# Altium integrated library Maxim Power and Battery Management.IntLib: 645 symbols (part 15 of 15)
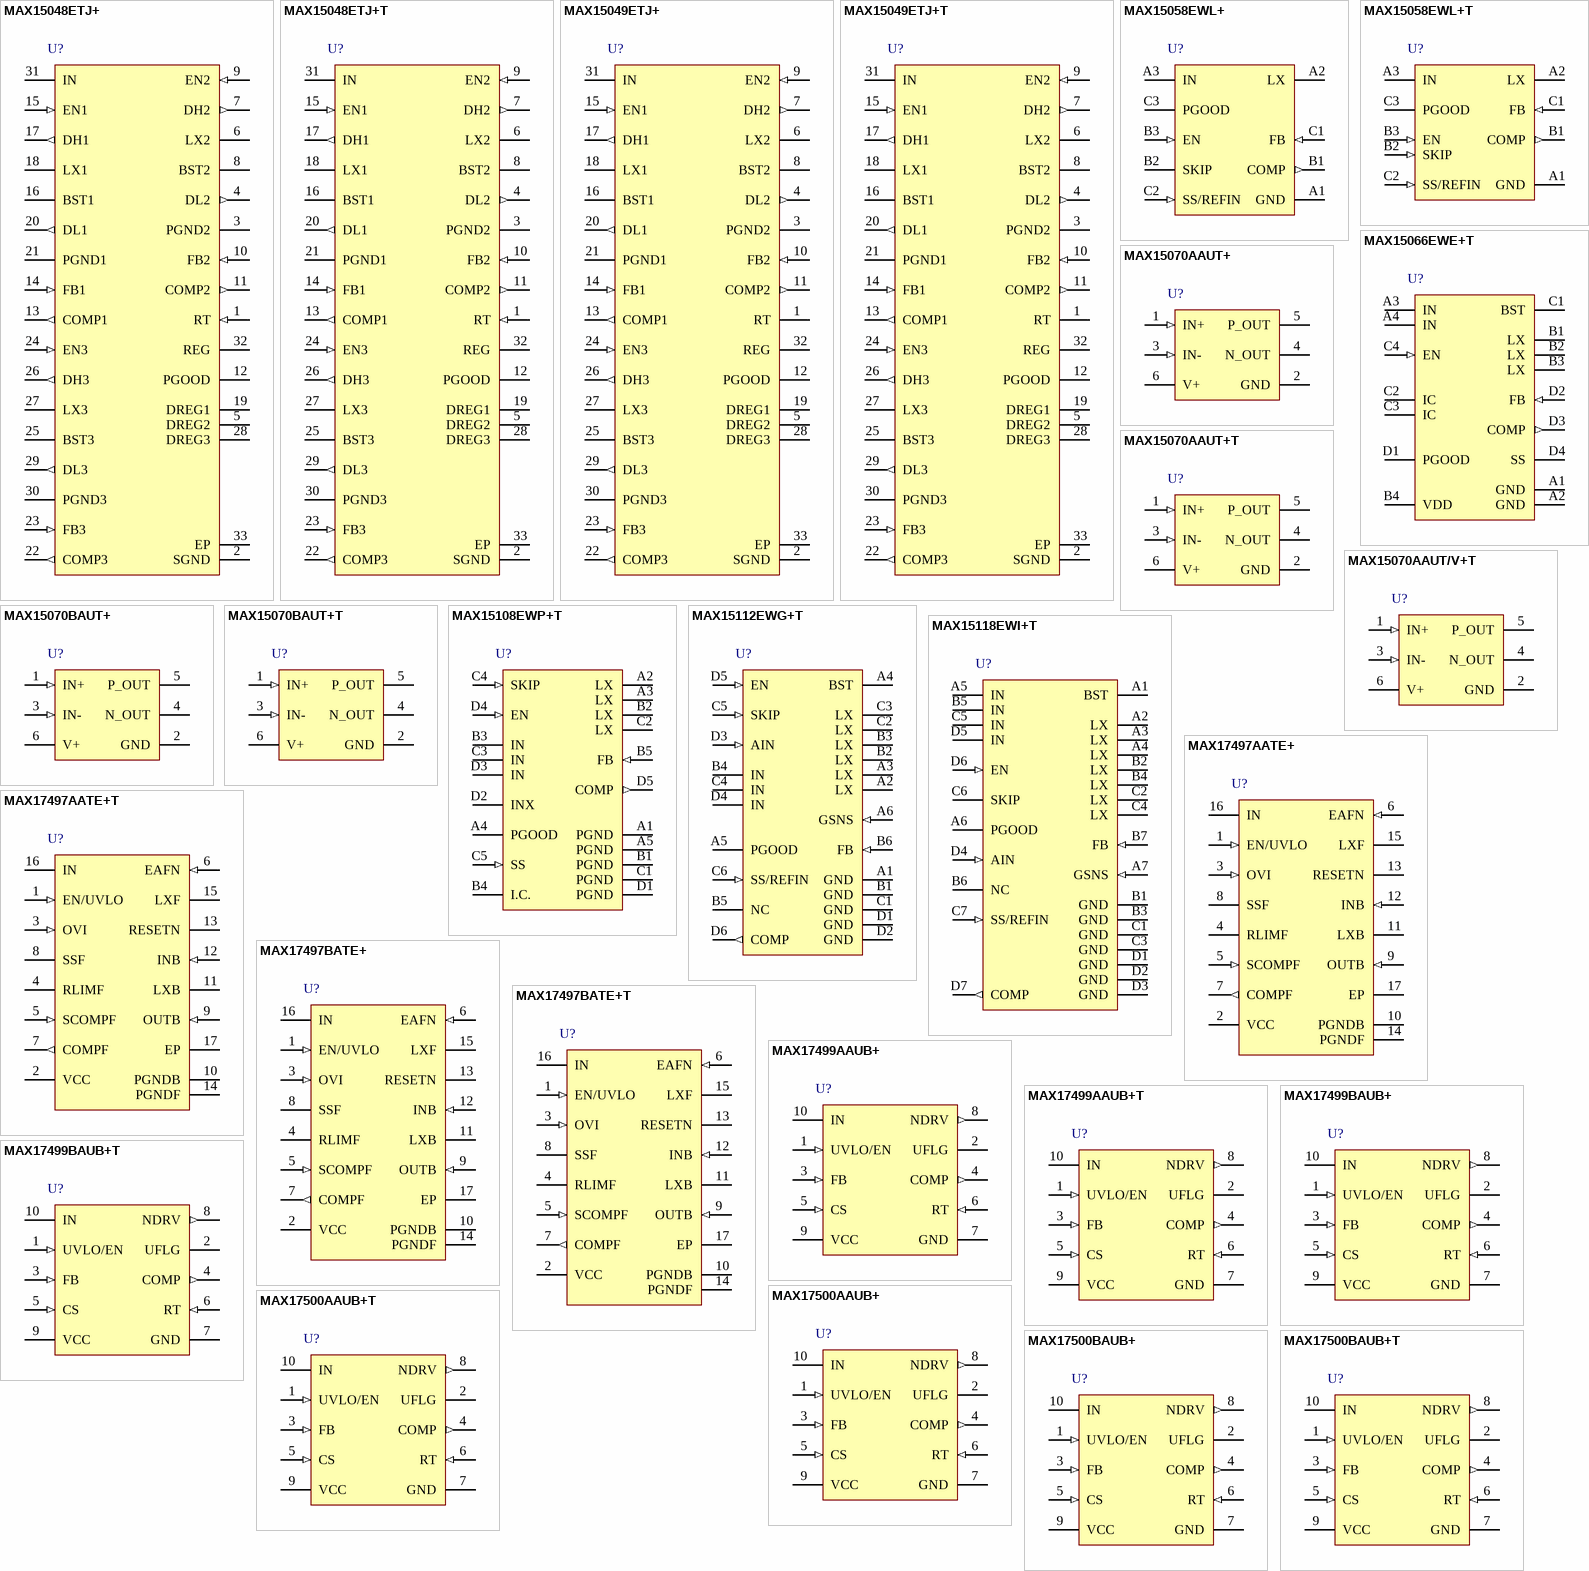
[diagram p33: symbols MAX15048ETJ+ to MAX17500BAUB+T]

## MAX15112EWG+T
designator U?
High-Efficiency, 12A, Current-Mode Synchronous Step-Down Regulator with Integrated Switches, 24-Pin WLP, -40°C to +85°C, Pb-Free, Tape and Reel; DatasheetVersion: Rev 1, Sep-2011; PackageVersion: revB, 2011; PackageReference: W242A3Z+1; PackageDescription: 24-Bump WLP Rectangular, 0.5 mm Pitch, Pb-Free; ComponentLink1Description: Manufacturer URL; ComponentLink1URL: http://www.maxim-ic.com; ComponentLink2Description: Datasheet; ComponentLink2URL: http://datasheets.maxim-ic.com/en/ds/MAX15112.pdf; ComponentLink3Description: Package Specification; ComponentLink3URL: http://pdfserv.maxim-ic.com/package_dwgs/21-0538.PDF
footprint W242A3Z+1 (BGA, 24-Leads, Body 2.1x3.1mm, Pitch 0.5mm)
pins: A1 GND (power) "Ground Connection. GND is the source terminal of the internal low-side switch. Connect all GND bumps to a component-side PCB copper ground plane at a single point near the input bypass capacitor return terminal.", A2 LX "Inductor Connection. Connect LX to the switching side of the inductor. LX is high impedance when the MAX15112 is in shutdown mode.", A3 LX "Inductor Connection. Connect LX to the switching side of the inductor. LX is high impedance when the MAX15112 is in shutdown mode.", A4 BST "Boost Input for the High-Side Switch Driver. Connect a capacitor from BST to LX.", A5 PGOOD (oc) "Power-Good Open-Drain Output. PGOOD asserts high when VFBis above 0.554V (typ) and deasserts when VFBfalls below 0.529V (typ).", A6 GSNS (in) "Remote Ground-Sense Input. Connect GSNS to the ground terminal of the load and to the bottom of the feedback resistors.", B1 GND (power) "Ground Connection. GND is the source terminal of the internal low-side switch. Connect all GND bumps to a component-side PCB copper ground plane at a single point near the input bypass capacitor return terminal.", B2 LX "Inductor Connection. Connect LX to the switching side of the inductor. LX is high impedance when the MAX15112 is in shutdown mode.", B3 LX "Inductor Connection. Connect LX to the switching side of the inductor. LX is high impedance when the MAX15112 is in shutdown mode.", B4 IN (power) "Input Power Supply. Bypass IN to GND with at least two 22uF low-ESR ceramic capacitors with suf-ficient ripple current ratings.", B5 NC "No Connection. Do not connect.", B6 FB (in) "Feedback Input. Connect FB to the center tap of an external resistor divider from the output to the output capacitor return terminal to set the output voltage from 0.6V to 0.94 x VIN.", C1 GND (power) "Ground Connection. GND is the source terminal of the internal low-side switch. Connect all GND bumps to a component-side PCB copper ground plane at a single point near the input bypass capacitor return terminal.", C2 LX "Inductor Connection. Connect LX to the switching side of the inductor. LX is high impedance when the MAX15112 is in shutdown mode.", C3 LX "Inductor Connection. Connect LX to the switching side of the inductor. LX is high impedance when the MAX15112 is in shutdown mode.", C4 IN (power) "Input Power Supply. Bypass IN to GND with at least two 22uF low-ESR ceramic capacitors with suf-ficient ripple current ratings.", C5 SKIP (in) "Skip-Mode Selector Input. Connect SKIP to EN for skip-mode operation. Connect SKIP to GND or leave unconnected for continuous mode operation. Do not change the state of SKIP when EN is high.", C6 SS/REFIN (in) "Soft-Start and External Voltage Reference Input. Connect a capacitor from SS/REFIN to GND to set the soft-start delay. See the Setting the Soft-Start Timesection for more information. To use SS/REFIN as an external voltage reference, apply a voltage ranging from 0V to (VIN- 2.5V) to SS/REFIN to externall", D1 GND (power) "Ground Connection. GND is the source terminal of the internal low-side switch. Connect all GND bumps to a component-side PCB copper ground plane at a single point near the input bypass capacitor return terminal.", D2 GND (power) "Ground Connection. GND is the source terminal of the internal low-side switch. Connect all GND bumps to a component-side PCB copper ground plane at a single point near the input bypass capacitor return terminal.", D3 AIN (in) "Filtered Input Voltage.", D4 IN (power) "Input Power Supply. Bypass IN to GND with at least two 22uF low-ESR ceramic capacitors with suf-ficient ripple current ratings.", D5 EN (in) "Enable Input. Drive EN high to enable the MAX15112. Connect EN to IN for always-on operation.", D6 COMP (out) "Error Amplifier Output. Connect the compensation network from COMP to GND. See the Compensation Design Guidelines section for more information."

## MAX15118EWI+T
designator U?
High-Efficiency, 18A, Current-Mode Synchronous, Step-Down Regulator with Integrated Switches, 28-Pin WLP, -40°C to +85°C, Pb-Free, Tape and Reel; DatasheetVersion: Rev 1, Sep-2011; PackageVersion: revA, 2011; PackageReference: W282B3Z+1; PackageDescription: 28-Ball Wafer-Level Package (WLP) 4x7 Bump, Full Array, 0.5 mm Pitch, Pb-Free; ComponentLink1Description: Manufacturer URL; ComponentLink1URL: http://www.maxim-ic.com; ComponentLink2Description: Datasheet; ComponentLink2URL: http://datasheets.maxim-ic.com/en/ds/MAX15118.pdf; ComponentLink3Description: Package Specification; ComponentLink3URL: http://pdfserv.maxim-ic.com/package_dwgs/21-0577.PDF
footprint W282B3Z+1 (BGA, 28-Leads, Body 2.1x3.6mm, Pitch 0.5mm)
pins: A1 BST, A2 LX, A3 LX, A4 LX, A5 IN (power), A6 PGOOD (oc), A7 GSNS (in), B1 GND (power), B2 LX, B3 GND (power), B4 LX, B5 IN (power), B6 NC, B7 FB (in), C1 GND (power), C2 LX, C3 GND (power), C4 LX, C5 IN (power), C6 SKIP, C7 SS/REFIN (in), D1 GND (power), D2 GND (power), D3 GND (power), D4 AIN (in), D5 IN (power), D6 EN (in), D7 COMP (out)

## MAX17497AATE+
designator U?
AC-DC and DC-DC Peak-Current-Mode Converter with Integrated Step-Down Regulator, 250kHz switching frequency, 16-Pin TQFN, -40°C to +125°C, Pb-Free; DatasheetVersion: Rev 1, Jan-2012; PackageVersion: revJ, 2010; PackageReference: T1633+5; PackageDescription: 16-Pin Thin Quad Flatpack, No Leads, 3 x 3 x 0.75 mm Body, 0.5 mm Pitch, TQFN, Pb-Free; Code_JEDEC: MO-220WEED-2; ComponentLink1Description: Manufacturer URL; ComponentLink1URL: http://www.maxim-ic.com; ComponentLink2Description: Datasheet; ComponentLink2URL: http://datasheets.maxim-ic.com/en/ds/MAX17497A-MAX17497B.pdf; ComponentLink3Description: Package Specification; ComponentLink3URL: http://pdfserv.maxim-ic.com/package_dwgs/21-0136.PDF
footprint T1633+5_N (QFN, 16-Leads, Body 3x3mm, Pitch 0.5mm, Thermal Pad 1.1x1.1mm, IPC Medium Density)
footprint T1633+5_L (QFN, 16-Leads, Body 3x3mm, Pitch 0.5mm, Thermal Pad 1.1x1.1mm, IPC High Density)
footprint T1633+5_M (QFN, 16-Leads, Body 3x3mm, Pitch 0.5mm, Thermal Pad 1.1x1.1mm, IPC Low Density)
pins: 1 EN/UVLO (in), 2 VCC (power), 3 OVI (in), 4 RLIMF, 5 SCOMPF (in), 6 EAFN (in), 7 COMPF (out), 8 SSF, 9 OUTB (in), 10 PGNDB (power), 11 LXB, 12 INB (in), 13 RESETN (oc), 14 PGNDF (power), 15 LXF, 16 IN (power), 17 EP (power)

## MAX17497AATE+T
designator U?
AC-DC and DC-DC Peak-Current-Mode Converter with Integrated Step-Down Regulator, 250kHz switching frequency, 16-Pin TQFN, -40°C to +125°C, Pb-Free, Tape and Reel; DatasheetVersion: Rev 1, Jan-2012; PackageVersion: revJ, 2010; PackageReference: T1633+5; PackageDescription: 16-Pin Thin Quad Flatpack, No Leads, 3 x 3 x 0.75 mm Body, 0.5 mm Pitch, TQFN, Pb-Free; Code_JEDEC: MO-220WEED-2; ComponentLink1Description: Manufacturer URL; ComponentLink1URL: http://www.maxim-ic.com; ComponentLink2Description: Datasheet; ComponentLink2URL: http://datasheets.maxim-ic.com/en/ds/MAX17497A-MAX17497B.pdf; ComponentLink3Description: Package Specification; ComponentLink3URL: http://pdfserv.maxim-ic.com/package_dwgs/21-0136.PDF
footprint T1633+5_N (QFN, 16-Leads, Body 3x3mm, Pitch 0.5mm, Thermal Pad 1.1x1.1mm, IPC Medium Density)
footprint T1633+5_L (QFN, 16-Leads, Body 3x3mm, Pitch 0.5mm, Thermal Pad 1.1x1.1mm, IPC High Density)
footprint T1633+5_M (QFN, 16-Leads, Body 3x3mm, Pitch 0.5mm, Thermal Pad 1.1x1.1mm, IPC Low Density)
pins: 1 EN/UVLO (in), 2 VCC (power), 3 OVI (in), 4 RLIMF, 5 SCOMPF (in), 6 EAFN (in), 7 COMPF (out), 8 SSF, 9 OUTB (in), 10 PGNDB (power), 11 LXB, 12 INB (in), 13 RESETN (oc), 14 PGNDF (power), 15 LXF, 16 IN (power), 17 EP (power)

## MAX17497BATE+
designator U?
AC-DC and DC-DC Peak-Current-Mode Converter with Integrated Step-Down Regulato, 500kHz switching frequencyr, 16-Pin TQFN, -40°C to +125°C, Pb-Free; DatasheetVersion: Rev 1, Jan-2012; PackageVersion: revJ, 2010; PackageReference: T1633+5; PackageDescription: 16-Pin Thin Quad Flatpack, No Leads, 3 x 3 x 0.75 mm Body, 0.5 mm Pitch, TQFN, Pb-Free; Code_JEDEC: MO-220WEED-2; ComponentLink1Description: Manufacturer URL; ComponentLink1URL: http://www.maxim-ic.com; ComponentLink2Description: Datasheet; ComponentLink2URL: http://datasheets.maxim-ic.com/en/ds/MAX17497A-MAX17497B.pdf; ComponentLink3Description: Package Specification; ComponentLink3URL: http://pdfserv.maxim-ic.com/package_dwgs/21-0136.PDF
footprint T1633+5_N (QFN, 16-Leads, Body 3x3mm, Pitch 0.5mm, Thermal Pad 1.1x1.1mm, IPC Medium Density)
footprint T1633+5_L (QFN, 16-Leads, Body 3x3mm, Pitch 0.5mm, Thermal Pad 1.1x1.1mm, IPC High Density)
footprint T1633+5_M (QFN, 16-Leads, Body 3x3mm, Pitch 0.5mm, Thermal Pad 1.1x1.1mm, IPC Low Density)
pins: 1 EN/UVLO (in), 2 VCC (power), 3 OVI (in), 4 RLIMF, 5 SCOMPF (in), 6 EAFN (in), 7 COMPF (out), 8 SSF, 9 OUTB (in), 10 PGNDB (power), 11 LXB, 12 INB (in), 13 RESETN (oc), 14 PGNDF (power), 15 LXF, 16 IN (power), 17 EP (power)

## MAX17497BATE+T
designator U?
AC-DC and DC-DC Peak-Current-Mode Converter with Integrated Step-Down Regulator, 500kHz switching frequencyr, 16-Pin TQFN, -40°C to +125°C, Pb-Free, Tape and Reel; DatasheetVersion: Rev 1, Jan-2012; PackageVersion: revJ, 2010; PackageReference: T1633+5; PackageDescription: 16-Pin Thin Quad Flatpack, No Leads, 3 x 3 x 0.75 mm Body, 0.5 mm Pitch, TQFN, Pb-Free; Code_JEDEC: MO-220WEED-2; ComponentLink1Description: Manufacturer URL; ComponentLink1URL: http://www.maxim-ic.com; ComponentLink2Description: Datasheet; ComponentLink2URL: http://datasheets.maxim-ic.com/en/ds/MAX17497A-MAX17497B.pdf; ComponentLink3Description: Package Specification; ComponentLink3URL: http://pdfserv.maxim-ic.com/package_dwgs/21-0136.PDF
footprint T1633+5_N (QFN, 16-Leads, Body 3x3mm, Pitch 0.5mm, Thermal Pad 1.1x1.1mm, IPC Medium Density)
footprint T1633+5_L (QFN, 16-Leads, Body 3x3mm, Pitch 0.5mm, Thermal Pad 1.1x1.1mm, IPC High Density)
footprint T1633+5_M (QFN, 16-Leads, Body 3x3mm, Pitch 0.5mm, Thermal Pad 1.1x1.1mm, IPC Low Density)
pins: 1 EN/UVLO (in), 2 VCC (power), 3 OVI (in), 4 RLIMF, 5 SCOMPF (in), 6 EAFN (in), 7 COMPF (out), 8 SSF, 9 OUTB (in), 10 PGNDB (power), 11 LXB, 12 INB (in), 13 RESETN (oc), 14 PGNDF (power), 15 LXF, 16 IN (power), 17 EP (power)

## MAX17499AAUB+
designator U?
Current-Mode PWM Controller with Programmable Switching Frequency, 50% DMAX, 9.5V startup, 10-Pin uMAX, -40°C to +125°C, Pb-Free; DatasheetVersion: Rev 1, Jul-2011; PackageVersion: revL, 2008; PackageReference: U10+2; PackageDescription: 10-Pin Micro-MAX Thin Shrink Small Outline (uSOP), 3 x 3 x 0.85 mm Body, 0.5 mm Pitch, Pb-Free; Code_JEDEC: MO-187-BA; ComponentLink1Description: Manufacturer URL; ComponentLink1URL: http://www.maxim-ic.com; ComponentLink2Description: Datasheet; ComponentLink2URL: http://datasheets.maxim-ic.com/en/ds/MAX17499-MAX17500.pdf; ComponentLink3Description: Package Specification; ComponentLink3URL: http://pdfserv.maxim-ic.com/package_dwgs/21-0061.PDF
footprint U10+2_N (TSSOP, 10-Leads, Body 3x3mm, Pitch 0.5mm, IPC Medium Density)
footprint U10+2_L (TSSOP, 10-Leads, Body 3x3mm, Pitch 0.5mm, IPC High Density)
footprint U10+2_M (TSSOP, 10-Leads, Body 3x3mm, Pitch 0.5mm, IPC Low Density)
pins: 1 UVLO/EN (in), 2 UFLG (oc), 3 FB (in), 4 COMP (out), 5 CS (in), 6 RT (in), 7 GND (power), 8 NDRV (out), 9 VCC (power), 10 IN (power)

## MAX17499AAUB+T
designator U?
Current-Mode PWM Controller with Programmable Switching Frequency, 50% DMAX, 9.5V startup, 10-Pin uMAX, -40°C to +125°C, Pb-Free, Tape and Reel; DatasheetVersion: Rev 1, Jul-2011; PackageVersion: revL, 2008; PackageReference: U10+2; PackageDescription: 10-Pin Micro-MAX Thin Shrink Small Outline (uSOP), 3 x 3 x 0.85 mm Body, 0.5 mm Pitch, Pb-Free; Code_JEDEC: MO-187-BA; ComponentLink1Description: Manufacturer URL; ComponentLink1URL: http://www.maxim-ic.com; ComponentLink2Description: Datasheet; ComponentLink2URL: http://datasheets.maxim-ic.com/en/ds/MAX17499-MAX17500.pdf; ComponentLink3Description: Package Specification; ComponentLink3URL: http://pdfserv.maxim-ic.com/package_dwgs/21-0061.PDF
footprint U10+2_N (TSSOP, 10-Leads, Body 3x3mm, Pitch 0.5mm, IPC Medium Density)
footprint U10+2_L (TSSOP, 10-Leads, Body 3x3mm, Pitch 0.5mm, IPC High Density)
footprint U10+2_M (TSSOP, 10-Leads, Body 3x3mm, Pitch 0.5mm, IPC Low Density)
pins: 1 UVLO/EN (in), 2 UFLG (oc), 3 FB (in), 4 COMP (out), 5 CS (in), 6 RT (in), 7 GND (power), 8 NDRV (out), 9 VCC (power), 10 IN (power)

## MAX17499BAUB+
designator U?
Current-Mode PWM Controller with Programmable Switching Frequency, 75% DMAX, 9.5V startup, 10-Pin uMAX, -40°C to +125°C, Pb-Free; DatasheetVersion: Rev 1, Jul-2011; PackageVersion: revL, 2008; PackageReference: U10+2; PackageDescription: 10-Pin Micro-MAX Thin Shrink Small Outline (uSOP), 3 x 3 x 0.85 mm Body, 0.5 mm Pitch, Pb-Free; Code_JEDEC: MO-187-BA; ComponentLink1Description: Manufacturer URL; ComponentLink1URL: http://www.maxim-ic.com; ComponentLink2Description: Datasheet; ComponentLink2URL: http://datasheets.maxim-ic.com/en/ds/MAX17499-MAX17500.pdf; ComponentLink3Description: Package Specification; ComponentLink3URL: http://pdfserv.maxim-ic.com/package_dwgs/21-0061.PDF
footprint U10+2_N (TSSOP, 10-Leads, Body 3x3mm, Pitch 0.5mm, IPC Medium Density)
footprint U10+2_L (TSSOP, 10-Leads, Body 3x3mm, Pitch 0.5mm, IPC High Density)
footprint U10+2_M (TSSOP, 10-Leads, Body 3x3mm, Pitch 0.5mm, IPC Low Density)
pins: 1 UVLO/EN (in), 2 UFLG (oc), 3 FB (in), 4 COMP (out), 5 CS (in), 6 RT (in), 7 GND (power), 8 NDRV (out), 9 VCC (power), 10 IN (power)

## MAX17499BAUB+T
designator U?
Current-Mode PWM Controller with Programmable Switching Frequency, 75% DMAX, 9.5V startup, 10-Pin uMAX, -40°C to +125°C, Pb-Free, Tape and Reel; DatasheetVersion: Rev 1, Jul-2011; PackageVersion: revL, 2008; PackageReference: U10+2; PackageDescription: 10-Pin Micro-MAX Thin Shrink Small Outline (uSOP), 3 x 3 x 0.85 mm Body, 0.5 mm Pitch, Pb-Free; Code_JEDEC: MO-187-BA; ComponentLink1Description: Manufacturer URL; ComponentLink1URL: http://www.maxim-ic.com; ComponentLink2Description: Datasheet; ComponentLink2URL: http://datasheets.maxim-ic.com/en/ds/MAX17499-MAX17500.pdf; ComponentLink3Description: Package Specification; ComponentLink3URL: http://pdfserv.maxim-ic.com/package_dwgs/21-0061.PDF
footprint U10+2_N (TSSOP, 10-Leads, Body 3x3mm, Pitch 0.5mm, IPC Medium Density)
footprint U10+2_L (TSSOP, 10-Leads, Body 3x3mm, Pitch 0.5mm, IPC High Density)
footprint U10+2_M (TSSOP, 10-Leads, Body 3x3mm, Pitch 0.5mm, IPC Low Density)
pins: 1 UVLO/EN (in), 2 UFLG (oc), 3 FB (in), 4 COMP (out), 5 CS (in), 6 RT (in), 7 GND (power), 8 NDRV (out), 9 VCC (power), 10 IN (power)

## MAX17500AAUB+
designator U?
Current-Mode PWM Controller with Programmable Switching Frequency, 50% DMAX, 22V startup, 10-Pin uMAX, -40°C to +125°C, Pb-Free; DatasheetVersion: Rev 1, Jul-2011; PackageVersion: revL, 2008; PackageReference: U10+2; PackageDescription: 10-Pin Micro-MAX Thin Shrink Small Outline (uSOP), 3 x 3 x 0.85 mm Body, 0.5 mm Pitch, Pb-Free; Code_JEDEC: MO-187-BA; ComponentLink1Description: Manufacturer URL; ComponentLink1URL: http://www.maxim-ic.com; ComponentLink2Description: Datasheet; ComponentLink2URL: http://datasheets.maxim-ic.com/en/ds/MAX17499-MAX17500.pdf; ComponentLink3Description: Package Specification; ComponentLink3URL: http://pdfserv.maxim-ic.com/package_dwgs/21-0061.PDF
footprint U10+2_N (TSSOP, 10-Leads, Body 3x3mm, Pitch 0.5mm, IPC Medium Density)
footprint U10+2_L (TSSOP, 10-Leads, Body 3x3mm, Pitch 0.5mm, IPC High Density)
footprint U10+2_M (TSSOP, 10-Leads, Body 3x3mm, Pitch 0.5mm, IPC Low Density)
pins: 1 UVLO/EN (in), 2 UFLG (oc), 3 FB (in), 4 COMP (out), 5 CS (in), 6 RT (in), 7 GND (power), 8 NDRV (out), 9 VCC (power), 10 IN (power)

## MAX17500AAUB+T
designator U?
Current-Mode PWM Controller with Programmable Switching Frequency, 50% DMAX, 22V startup, 10-Pin uMAX, -40°C to +125°C, Pb-Free, Tape and Reel; DatasheetVersion: Rev 1, Jul-2011; PackageVersion: revL, 2008; PackageReference: U10+2; PackageDescription: 10-Pin Micro-MAX Thin Shrink Small Outline (uSOP), 3 x 3 x 0.85 mm Body, 0.5 mm Pitch, Pb-Free; Code_JEDEC: MO-187-BA; ComponentLink1Description: Manufacturer URL; ComponentLink1URL: http://www.maxim-ic.com; ComponentLink2Description: Datasheet; ComponentLink2URL: http://datasheets.maxim-ic.com/en/ds/MAX17499-MAX17500.pdf; ComponentLink3Description: Package Specification; ComponentLink3URL: http://pdfserv.maxim-ic.com/package_dwgs/21-0061.PDF
footprint U10+2_N (TSSOP, 10-Leads, Body 3x3mm, Pitch 0.5mm, IPC Medium Density)
footprint U10+2_L (TSSOP, 10-Leads, Body 3x3mm, Pitch 0.5mm, IPC High Density)
footprint U10+2_M (TSSOP, 10-Leads, Body 3x3mm, Pitch 0.5mm, IPC Low Density)
pins: 1 UVLO/EN (in), 2 UFLG (oc), 3 FB (in), 4 COMP (out), 5 CS (in), 6 RT (in), 7 GND (power), 8 NDRV (out), 9 VCC (power), 10 IN (power)

## MAX17500BAUB+
designator U?
Current-Mode PWM Controller with Programmable Switching Frequency, 75% DMAX, 22V startup, 10-Pin uMAX, -40°C to +125°C, Pb-Free; DatasheetVersion: Rev 1, Jul-2011; PackageVersion: revL, 2008; PackageReference: U10+2; PackageDescription: 10-Pin Micro-MAX Thin Shrink Small Outline (uSOP), 3 x 3 x 0.85 mm Body, 0.5 mm Pitch, Pb-Free; Code_JEDEC: MO-187-BA; ComponentLink1Description: Manufacturer URL; ComponentLink1URL: http://www.maxim-ic.com; ComponentLink2Description: Datasheet; ComponentLink2URL: http://datasheets.maxim-ic.com/en/ds/MAX17499-MAX17500.pdf; ComponentLink3Description: Package Specification; ComponentLink3URL: http://pdfserv.maxim-ic.com/package_dwgs/21-0061.PDF
footprint U10+2_N (TSSOP, 10-Leads, Body 3x3mm, Pitch 0.5mm, IPC Medium Density)
footprint U10+2_L (TSSOP, 10-Leads, Body 3x3mm, Pitch 0.5mm, IPC High Density)
footprint U10+2_M (TSSOP, 10-Leads, Body 3x3mm, Pitch 0.5mm, IPC Low Density)
pins: 1 UVLO/EN (in), 2 UFLG (oc), 3 FB (in), 4 COMP (out), 5 CS (in), 6 RT (in), 7 GND (power), 8 NDRV (out), 9 VCC (power), 10 IN (power)

## MAX17500BAUB+T
designator U?
Current-Mode PWM Controller with Programmable Switching Frequency, 75% DMAX, 22V startup, 10-Pin uMAX, -40°C to +125°C, Pb-Free, Tape and Reel; DatasheetVersion: Rev 1, Jul-2011; PackageVersion: revL, 2008; PackageReference: U10+2; PackageDescription: 10-Pin Micro-MAX Thin Shrink Small Outline (uSOP), 3 x 3 x 0.85 mm Body, 0.5 mm Pitch, Pb-Free; Code_JEDEC: MO-187-BA; ComponentLink1Description: Manufacturer URL; ComponentLink1URL: http://www.maxim-ic.com; ComponentLink2Description: Datasheet; ComponentLink2URL: http://datasheets.maxim-ic.com/en/ds/MAX17499-MAX17500.pdf; ComponentLink3Description: Package Specification; ComponentLink3URL: http://pdfserv.maxim-ic.com/package_dwgs/21-0061.PDF
footprint U10+2_N (TSSOP, 10-Leads, Body 3x3mm, Pitch 0.5mm, IPC Medium Density)
footprint U10+2_L (TSSOP, 10-Leads, Body 3x3mm, Pitch 0.5mm, IPC High Density)
footprint U10+2_M (TSSOP, 10-Leads, Body 3x3mm, Pitch 0.5mm, IPC Low Density)
pins: 1 UVLO/EN (in), 2 UFLG (oc), 3 FB (in), 4 COMP (out), 5 CS (in), 6 RT (in), 7 GND (power), 8 NDRV (out), 9 VCC (power), 10 IN (power)